# Altium footprint library MOC3020.PcbLib: 1 footprints
Each footprint in its own frame and in the unit in brackets; x right, y up, seen from the top. Pads: shape width x height; smd on the part's side, far side on the other; paste and mask are expansions set on the pad; w line width, h text height; cw(c..) or ccw(c..) is an arc to the next point about the centre after c.
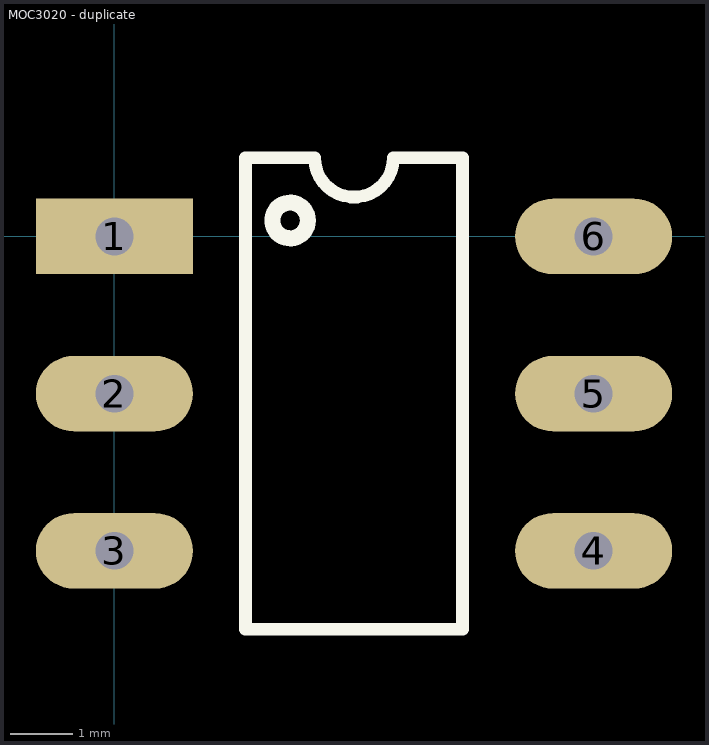
[diagram p0: the footprint, top view; thin cyan lines are the x and y axes]

## MOC3020 - duplicate [mm]
pads (6):
  rect 2.5x1.2 hole 0.6: 1(0,0)
  oval 2.5x1.2 hole 0.6: 2(0,-2.5) 3(0,-5) 4(7.62,-5) 5(7.62,-2.5) 6(7.62,0)
Top Overlay:
  circle w0.254: c2.794,0.254 r0.284
  lines w0.2: 2.085,-6.25 2.085,1.25 3.185,1.25 ccw(c3.81,1.25) 4.435,1.25 5.535,1.25 5.535,-6.25 2.085,-6.25